# Altium footprint library PcbLib1.PcbLib: 10 footprints
Each footprint in its own frame and in the unit in brackets; x right, y up, seen from the top. Pads: shape width x height; smd on the part's side, far side on the other; paste and mask are expansions set on the pad; w line width, h text height; cw(c..) or ccw(c..) is an arc to the next point about the centre after c.
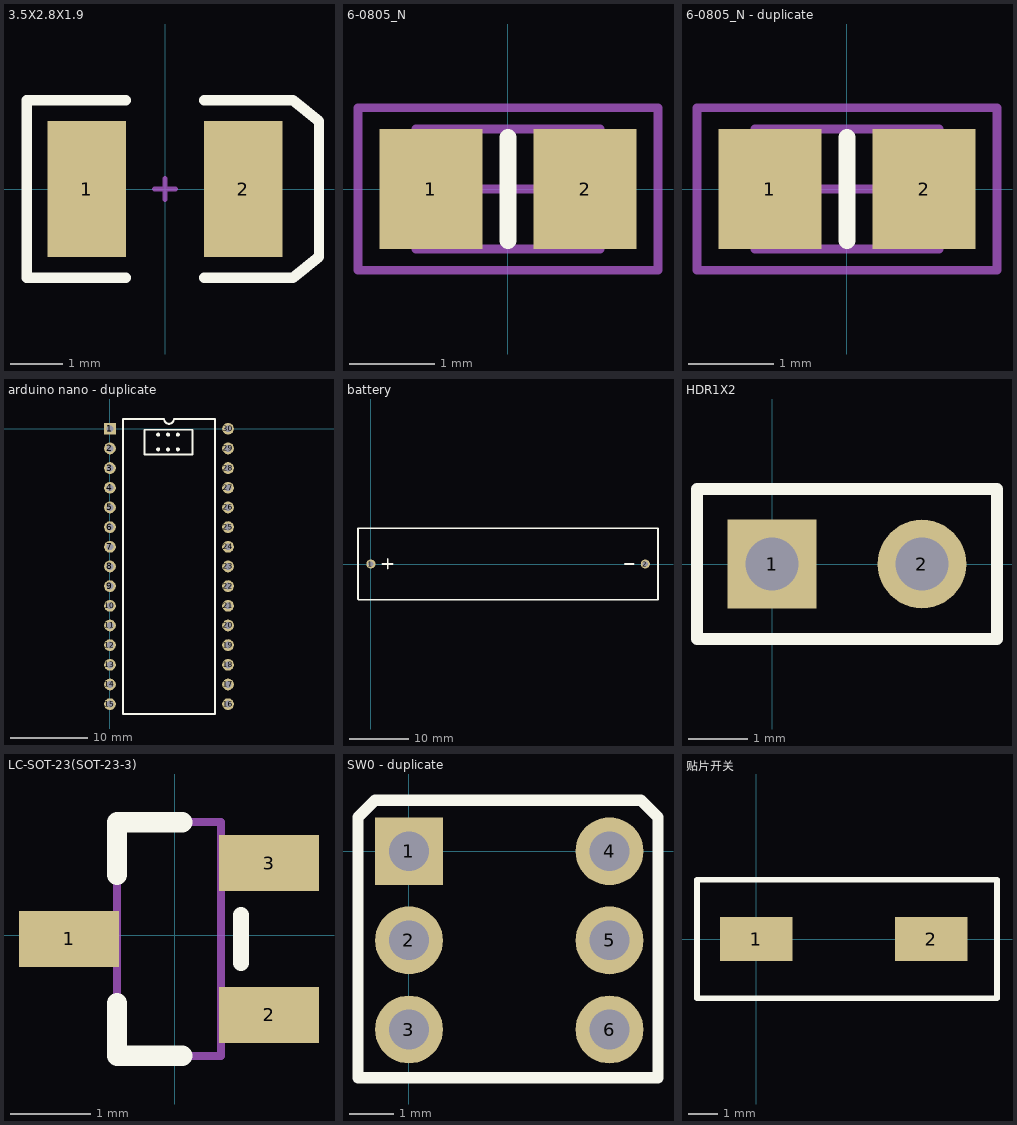
[diagram p0: the footprints below, top view; thin cyan lines are the x and y axes]

## 3.5X2.8X1.9 [mm] "SM LED; 2 C-Bend Leads; Body 3.5 x 2.8 x 1.9 mm, inc leads (LxWxH typ)"
height 1.9
pads (2):
  rect 1.5x2.6 smd: 1(-1.5,0) 2(1.5,0)
Top Overlay:
  lines w0.2: -0.75,-1.7 -2.65,-1.7 -2.65,1.7 -0.75,1.7 ; 0.75,-1.7 2.45,-1.7 2.95,-1.3 2.95,1.3 2.45,1.7 0.75,1.7
Mechanical 1:
  lines w0.1: -0.2,0 0.2,0 ; 0,-0.2 0,0.2

## 6-0805_N [mm] "Chip Resistor, Body 2.0x1.2mm, IPC Medium Density"
height 0.7
pads (2):
  rect 1.2x1.4 smd: 1(-0.9,0) 2(0.9,0)
Top Overlay:
  lines w0.2: 0,-0.6 0,0.6
Mechanical 13:
  lines w0.1: -1.075,-0.7 -1.075,0.7 1.075,0.7 1.075,-0.7 -1.075,-0.7
Mechanical 15:
  lines w0.1: -0.5,0 0.5,0 ; 0,-0.5 0,0.5 ; -1.75,-0.95 -1.75,0.95 1.75,0.95 1.75,-0.95 -1.75,-0.95
3D body: height 0.7, standoff 0, extent -1.075,-0.7 1.075,0.7

## 6-0805_N - duplicate [mm] "Chip Resistor, Body 2.0x1.2mm, IPC Medium Density"
height 0.7
pads (2):
  rect 1.2x1.4 smd: 1(-0.9,0) 2(0.9,0)
Top Overlay:
  lines w0.2: 0,-0.6 0,0.6
Mechanical 13:
  lines w0.1: -1.075,-0.7 -1.075,0.7 1.075,0.7 1.075,-0.7 -1.075,-0.7
Mechanical 15:
  lines w0.1: -0.5,0 0.5,0 ; 0,-0.5 0,0.5 ; -1.75,-0.95 -1.75,0.95 1.75,0.95 1.75,-0.95 -1.75,-0.95
3D body: height 0.7, standoff 0, extent -1.075,-0.7 1.075,0.7

## arduino nano - duplicate [mil]
pads (30):
  rect 60x60 hole 35: 1(0,0)
  round 60 hole 35: 2(0,-100) 3(0,-200) 4(0,-300) 5(0,-400) 6(0,-500) 7(0,-600) 8(0,-700) 9(0,-800) 10(0,-900) 11(0,-1000) 12(0,-1100) 13(0,-1200) 14(0,-1300) 15(0,-1400) 16(600,-1400) 17(600,-1300) 18(600,-1200) 19(600,-1100) 20(600,-1000) 21(600,-900) 22(600,-800) 23(600,-700) 24(600,-600) 25(600,-500) 26(600,-400) 27(600,-300) 28(600,-200) 29(600,-100) 30(600,0)
Top Overlay:
  circle w10: c245,-30 r5
  circle w10: c295,-30 r5
  circle w10: c345,-30 r5
  circle w10: c345,-105 r5
  circle w10: c295,-105 r5
  circle w10: c245,-105 r5
  lines w10: 175,-130 175,-5 ; 175,-130 175,-5 ; 175,-130 420,-130 420,-5 175,-5 ; 65,-1450 65,50 275,50 ccw(c300,50) 325,50 535,50 535,-1450 65,-1450

## battery [mil]
pads (2):
  round 60 hole 35: 1(0,0) 2(1811.02,0)
Top Overlay:
  lines w10: -85,-233.78 -85,0 -85,235 -83.78,236.22 -60,236.22 ; -83.78,-235 -83.78,-236.22 164.37,-236.22 1646.65,-236.22 1893.78,-236.22 1895,-235 1895,0 1895,235 1893.78,236.22 1646.65,236.22 -71.85,236.22 ; 75,0 145,0 ; 110,-30 110,35 ; 1675,0 1735,0

## HDR1X2 [mm] "Connector; Header; 2 Position"
pads (2):
  rect 1.5x1.5 hole 0.9: 1(0,0)
  round 1.5 hole 0.9: 2(2.54,0)
Top Overlay:
  lines w0.2: -1.27,-1.27 3.81,-1.27 3.81,1.27 -1.27,1.27 -1.27,-1.27

## LC-SOT-23(SOT-23-3) [mm]
pads (3):
  rect 1.25x0.7 smd: 1(-1.325,-0.05) 2(1.175,-1) 3(1.175,0.9)
Top Overlay:
  lines w0.2: 0.825,-0.35 0.825,0.25
  lines w0.254: -0.725,-0.85 -0.725,-1.51 0.09,-1.51 ; 0.09,1.41 -0.725,1.41 ; -0.725,0.75 -0.725,1.41 ; -0.725,0.75 -0.725,1.41 ; -0.725,0.75 -0.725,1.41
Mechanical 13:
  lines w0.1: -0.725,-1.51 -0.725,1.41 ; -0.725,-1.51 0.575,-1.51 ; -0.725,-1.51 0.575,-1.51 ; -0.725,-1.51 -0.725,1.41 ; -0.725,-1.51 0.575,-1.51 ; -0.725,-1.51 -0.725,1.41 ; -0.725,1.41 0.575,1.41 ; -0.725,1.41 0.575,1.41 ; -0.725,1.41 0.575,1.41 ; 0.575,-1.51 0.575,1.41 ; 0.575,-1.51 0.575,1.41 ; 0.575,-1.51 0.575,1.41
3D body "SOT-23.step": height 1.3, standoff 0, extent -1.575,-1.55 1.425,1.45

## PCBComponent_1 [mil]

## SW0 - duplicate [mil]
pads (6):
  rect 60x60 hole 35: 1(0,0)
  round 60 hole 35: 2(0,-78.74) 3(0,-157.48) 4(177.17,0) 5(177.17,-78.74) 6(177.17,-157.48)
Top Overlay:
  lines w10: -45,-200 -45,30 -30,45 205,45 220,30 220,-200 -45,-200

## 贴片开关 [mm]
pads (2):
  rect 2.5x1.5 smd: 1(0,0) 2(6,0)
Top Overlay:
  lines w0.2: -2.032,-2.032 -2.032,0.556 -2.032,2.032 8.255,2.032 8.255,-2.032 4.834,-2.032 0.881,-2.032 -2.032,-2.032